# Altium footprint library 充放电.PcbLib: 23 footprints (part 1 of 2)
Each footprint in its own frame and in the unit in brackets; x right, y up, seen from the top. Pads: shape width x height; smd on the part's side, far side on the other; paste and mask are expansions set on the pad; w line width, h text height; cw(c..) or ccw(c..) is an arc to the next point about the centre after c.
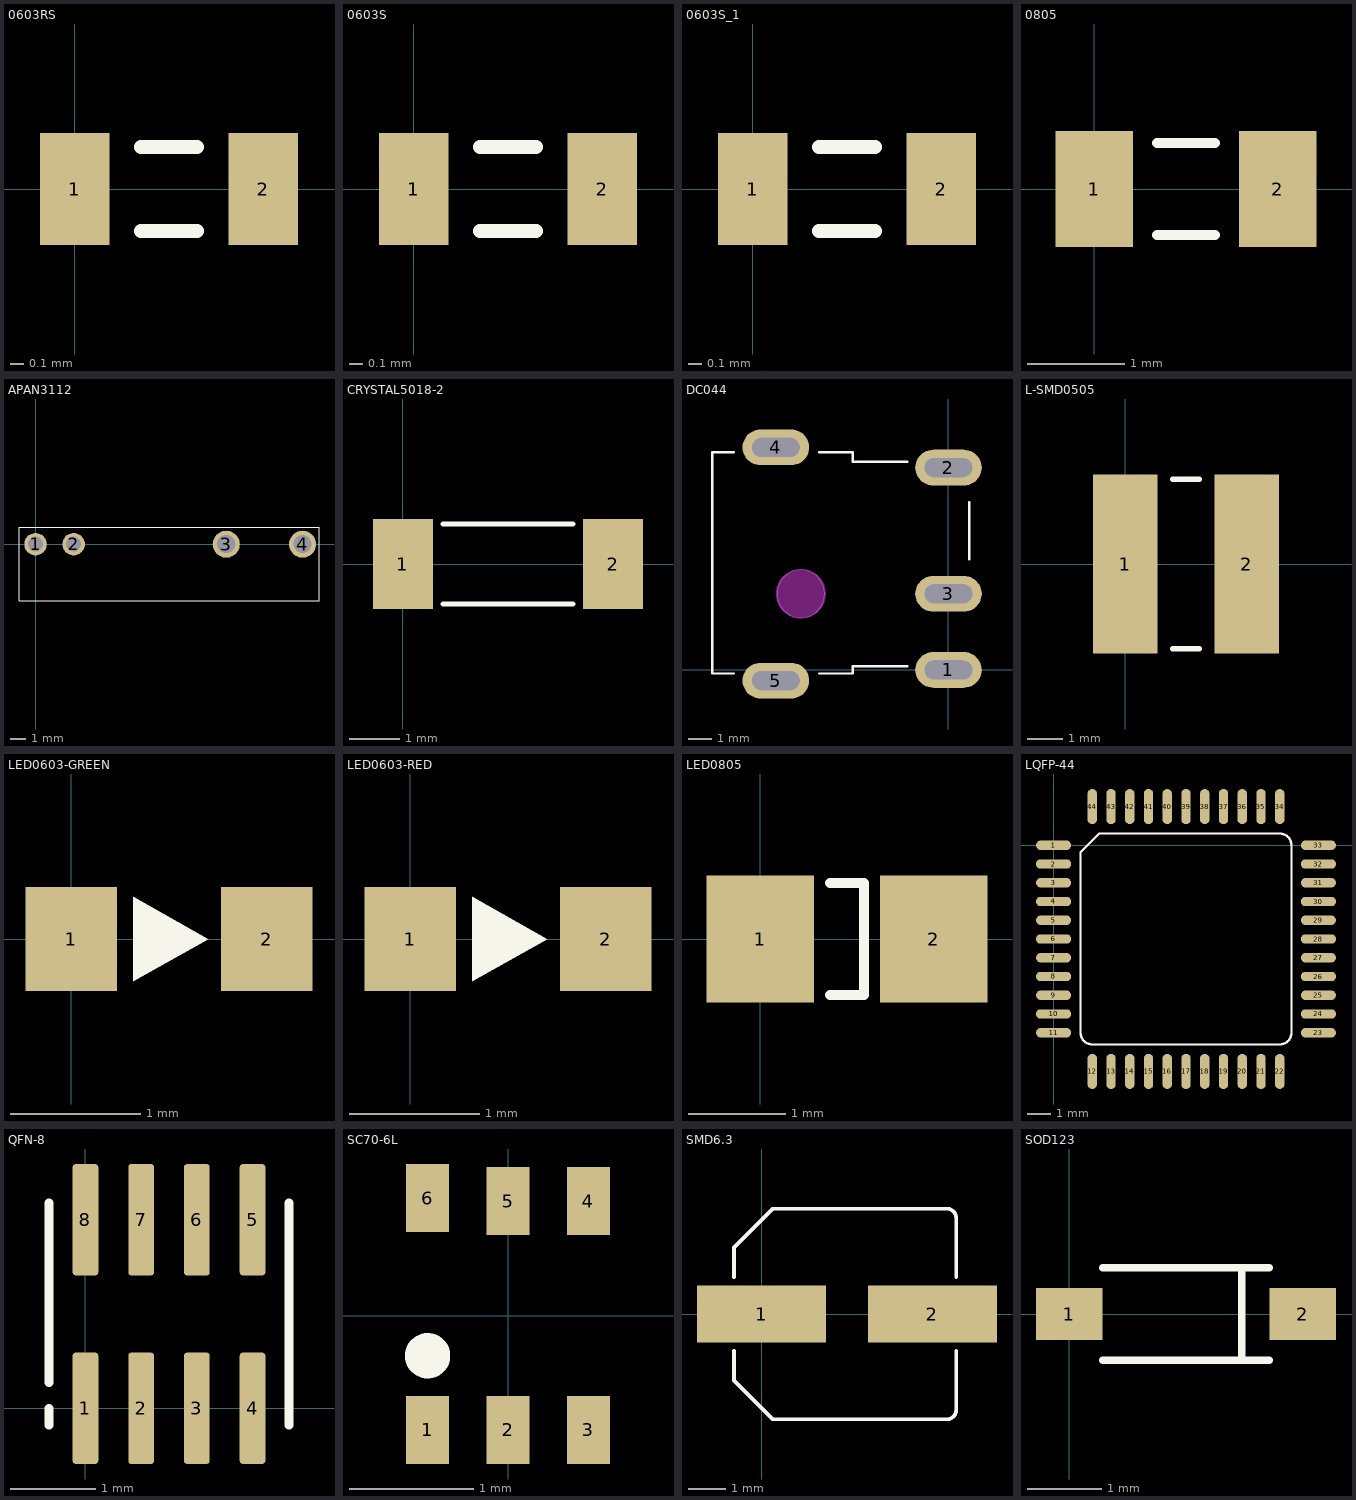
[diagram p0: the footprints below, top view; thin cyan lines are the x and y axes]

## 0603RS [mm]
pads (2):
  rect 0.5x0.8 smd: 1(0,0) 2(1.35,0)
Top Overlay:
  lines w0.1: 0.475,-0.3 0.875,-0.3 ; 0.475,0.3 0.875,0.3
3D body: height 0.41, standoff 0.4, extent 0.075,-0.4 1.275,0.4
3D body: height 0.4, standoff 0, extent 1.275,-0.4 1.475,0.4
3D body: height 0.4, standoff 0, extent 0.075,-0.4 1.275,0.4
3D body: height 0.4, standoff 0, extent -0.125,-0.4 0.075,0.4

## 0603S [mm]
pads (2):
  rect 0.5x0.8 smd: 1(0,0) 2(1.35,0)
Top Overlay:
  lines w0.1: 0.475,-0.3 0.875,-0.3 ; 0.475,0.3 0.875,0.3
3D body: height 0.8, standoff 0, extent 1.275,-0.4 1.475,0.4
3D body: height 0.8, standoff 0, extent 0.075,-0.4 1.275,0.4
3D body: height 0.8, standoff 0, extent -0.125,-0.4 0.075,0.4

## 0603S_1 [mm]
pads (2):
  rect 0.5x0.8 smd: 1(0,0) 2(1.35,0)
Top Overlay:
  lines w0.1: 0.475,-0.3 0.875,-0.3 ; 0.475,0.3 0.875,0.3
3D body: height 0.8, standoff 0, extent 1.275,-0.4 1.475,0.4
3D body: height 0.8, standoff 0, extent 0.075,-0.4 1.275,0.4
3D body: height 0.8, standoff 0, extent -0.125,-0.4 0.075,0.4

## 0805 [mm]
pads (2):
  rect 0.8x1.2 smd: 1(0,0) 2(1.9,0)
Top Overlay:
  lines w0.1: 0.65,-0.475 1.25,-0.475 ; 0.65,0.475 1.25,0.475
3D body: height 1, standoff 0, extent 1.55,-0.6 1.95,0.6
3D body: height 1, standoff 0, extent 0.35,-0.6 1.55,0.6
3D body: height 1, standoff 0, extent -0.05,-0.6 0.35,0.6

## APAN3112 [mm]
pads (4):
  round 1.5 hole 1: 1(0,0) 2(2.54,0)
  round 1.8 hole 1.2: 3(12.7,0) 4(17.78,0)
Top Overlay:
  lines w0.05: -1.1,-3.767 -1.1,-2.667 -1.1,1.133 18.875,1.133 18.875,-3.767 -1.1,-3.767
3D body: height 12.6, standoff 11.9, extent -0.697,-3.566 -0.1,-2.967
3D body: height 4, standoff -3.5, extent -0.494,-1.041 0.24,-0.991
3D body: height 4, standoff -3.5, extent 2.046,-1.041 2.78,-0.991
3D body: height 4, standoff -3.5, extent 12.192,-1.168 13.092,-1.118
3D body: height 4, standoff -3.5, extent 17.203,-1.295 18.103,-1.245
3D body: height 12, standoff 0.1, extent -1.1,-3.767 18.875,1.133
3D body: height 12.8, standoff 11.9, extent -1.1,-3.767 18.875,1.133

## CRYSTAL5018-2 [mm]
pads (2):
  rect 1.2x1.8 smd: 1(0,0) 2(4.2,0)
Top Overlay:
  lines w0.1: 0.8,-0.8 3.4,-0.8 ; 0.8,0.8 3.4,0.8
3D body: height 0.1, standoff 0, extent -0.4,-0.9 4.6,0.9
3D body: height 0.2, standoff 0.1, extent 2.804,-0.5 4.404,0.5
3D body: height 0.2, standoff 0.1, extent -0.2,-0.5 1.4,0.5
3D body: height 0.9, standoff 0, extent -0.4,-0.9 4.6,0.9
3D body: height 1, standoff 0.91, extent -0.4,-0.9 4.6,0.9
3D body: height 0.5, standoff 0.3, extent 0,-0.4 4.2,0.4

## DC044 [mm]
pads (5):
  oval 2.8x1.5 / inner oval 2.8x1.5 / far side oval 2.8x2 hole 0.8 slot 2 at 0 deg: 1(0,0) 2(0,8.5) 3(0,3.2)
  oval 2.8x1.5 hole 0.8 slot 2 at 0 deg: 4(-7.25,9.35) 5(-7.25,-0.45)
Top Overlay:
  lines w0.1: -9.025,-0.15 -9.925,-0.15 -9.925,9.15 -9.025,9.15 ; -5.425,-0.15 -4.025,-0.15 -4.025,0.15 -1.725,0.15 ; -5.425,9.15 -4.025,9.15 -4.025,8.75 -1.725,8.75 ; 0.875,4.65 0.875,7.05
Keep-Out Layer:
  circle w0.1: c-6.2,3.2 r1
  board cut-out: -7.2,3.2 -7.2,3.298 -7.162,3.492 -7.086,3.674 -6.977,3.837 -6.837,3.977 -6.674,4.086 -6.492,4.162 -6.298,4.2 -6.2,4.2 -6.102,4.2 -5.908,4.162 -5.726,4.086 -5.563,3.977 -5.423,3.837 -5.314,3.674 -5.238,3.492 -5.2,3.298 -5.2,3.2 -5.2,3.102 -5.238,2.908 -5.314,2.726 -5.423,2.563 -5.563,2.423 -5.726,2.314 -5.908,2.238 -6.102,2.2 -6.2,2.2 -6.298,2.2 -6.492,2.238 -6.674,2.314 -6.837,2.423 -6.977,2.563 -7.086,2.726 -7.162,2.908 -7.2,3.102
Mechanical 1:
  lines w0.1: -0.9,3.2 0,3.2 ; -0.4,3.2 0.5,3.2
Mechanical 2:
  circle w0.05: c-6.2,3.2 r1
3D body: height 6.6, standoff 0, extent -3.8,-0.2 1.3,9.1
3D body: height 7.2, standoff 0, extent -10.3,-0.5 -3.8,9.5
3D body: height 0, standoff -2, extent -8.15,-0.5 -6.35,-0.3
3D body: height 0, standoff -2, extent -8.15,9.3 -6.35,9.5
3D body: height 0, standoff -2, extent -0.7,-0.1 0.7,0.1
3D body: height 0, standoff -2, extent -0.7,3.1 0.7,3.3
3D body: height 0, standoff -2, extent -0.7,8.4 0.7,8.6
3D body: height 6.4, standoff 0.6, extent -10.4,0.3 -1.4,6.1
3D body: height 4.2, standoff 2.8, extent -10.4,2.505 -1.4,3.9
3D body: height 0, standoff -2, extent -6.9,2.5 -5.5,3.9

## L-SMD0505 [mm]
pads (2):
  rect 1.8x5 smd: 1(0,0) 2(3.4,0)
Top Overlay:
  lines w0.15: 1.325,-2.375 2.075,-2.375 ; 1.325,2.375 2.075,2.375
3D body: height 1.5, standoff 0.1, extent -0.9,-2.6 4.3,2.6
3D body: height 2.2, standoff 0, extent 0.063,-1.647 3.35,1.647
3D body: height 2, standoff 0.09, extent -0.086,-1.796 3.5,1.797
3D body: height 1.99, standoff 1.5, extent 0.3,-1.4 4.3,2.6
3D body: height 1.99, standoff 1.5, extent -0.9,-2.6 3.1,1.4
3D body: height 1.8, standoff 1.5, extent 2.6,-2.4 4.1,-0.9
3D body: height 1.8, standoff 0, extent 2.925,-2.425 4.125,-1.225
3D body: height 1, standoff 0, extent 2.625,-2.425 4.125,-0.925
3D body: height 1, standoff 0, extent -0.725,0.925 0.775,2.425
3D body: height 1.8, standoff 0, extent -0.725,1.225 0.475,2.425
3D body: height 1.8, standoff 1.5, extent -0.7,0.9 0.8,2.4

## LED0603-GREEN [mm]
pads (2):
  rect 0.7x0.8 smd: 1(0,0) 2(1.5,0)
Top Overlay:
  region: 0.475,0.325 0.475,-0.325 1.05,0
3D body: height 0.65, standoff 0.21, extent 0.225,-0.4 1.225,0.4
3D body: height 0.3, standoff 0.2, extent 0.65,-0.1 0.85,0.1
3D body: height 0.35, standoff 0.3, extent 0.72,-0.03 0.78,0.03
3D body: height 0.35, standoff 0.2, extent 0.895,0.245 0.955,0.305
3D body: height 0.38, standoff 0.32, extent 0.7,-0.042 0.962,0.307
3D body: height 0.2, standoff 0, extent -0.05,-0.4 0.75,0.4
3D body: height 0.2, standoff 0, extent 0.75,-0.4 1.55,0.4
3D body: height 0.21, standoff 0.2, extent -0.05,-0.375 0.95,0.377
3D body: height 0.21, standoff 0.2, extent 0.525,-0.375 1.55,0.375

## LED0603-RED [mm]
pads (2):
  rect 0.7x0.8 smd: 1(0,0) 2(1.5,0)
Top Overlay:
  region: 0.475,0.325 0.475,-0.325 1.05,0
3D body: height 0.65, standoff 0.21, extent 0.225,-0.4 1.225,0.4
3D body: height 0.3, standoff 0.2, extent 0.65,-0.1 0.85,0.1
3D body: height 0.35, standoff 0.3, extent 0.72,-0.03 0.78,0.03
3D body: height 0.35, standoff 0.2, extent 0.895,0.245 0.955,0.305
3D body: height 0.38, standoff 0.32, extent 0.7,-0.042 0.962,0.307
3D body: height 0.2, standoff 0, extent -0.05,-0.4 0.75,0.4
3D body: height 0.2, standoff 0, extent 0.75,-0.4 1.55,0.4
3D body: height 0.21, standoff 0.2, extent -0.05,-0.375 0.95,0.377
3D body: height 0.21, standoff 0.2, extent 0.525,-0.375 1.55,0.375

## LED0805 [mm]
pads (2):
  rect 1.1x1.3 smd: 1(0,0) 2(1.778,0)
Top Overlay:
  lines w0.1: 0.714,-0.575 1.064,-0.575 1.064,0.575 0.714,0.575
3D body: height 0.65, standoff 0.6, extent 0.525,-0.025 0.914,0.364
3D body: height 0.65, standoff 0.55, extent 0.864,-0.025 0.914,0.025
3D body: height 0.55, standoff 0.5, extent 0.79,-0.1 0.989,0.1
3D body: height 1, standoff 0.3, extent 0.189,-0.7 1.589,0.7
3D body: height 0.5, standoff 0.3, extent 0.689,-0.2 1.089,0.2
3D body: height 0.65, standoff 0.3, extent 0.526,0.314 0.575,0.364
3D body: height 0.31, standoff 0.3, extent 1.589,-0.7 1.764,0.7
3D body: height 0.31, standoff 0.3, extent -0.236,-0.7 0.592,0.7
3D body: height 0.31, standoff 0.3, extent 0.667,-0.7 2.014,0.7
3D body: height 0.3, standoff 0, extent -0.236,-0.7 2.014,0.7

## LQFP-44 [mm]
pads (44):
  oval 1.5x0.4 smd: 1(0,0) 2(0,-0.8) 3(0,-1.6) 4(0,-2.4) 5(0,-3.2) 6(0,-4) 7(0,-4.8) 8(0,-5.6) 9(0,-6.4) 10(0,-7.2) 11(0,-8) 23(11.303,-8.001) 24(11.303,-7.201) 25(11.303,-6.401) 26(11.303,-5.601) 27(11.303,-4.801) 28(11.303,-4.001) 29(11.303,-3.201) 30(11.303,-2.401) 31(11.303,-1.601) 32(11.303,-0.801) 33(11.303,-0.001)
  oval 0.4x1.5 smd: 12(1.652,-9.652) 13(2.452,-9.652) 14(3.252,-9.652) 15(4.052,-9.652) 16(4.852,-9.652) 17(5.652,-9.652) 18(6.452,-9.652) 19(7.252,-9.652) 20(8.052,-9.652) 21(8.852,-9.652) 22(9.652,-9.652) 34(9.652,1.651) 35(8.852,1.651) 36(8.052,1.651) 37(7.252,1.651) 38(6.452,1.651) 39(5.652,1.651) 40(4.852,1.651) 41(4.052,1.651) 42(3.252,1.651) 43(2.452,1.651) 44(1.652,1.651)
Top Overlay:
  lines w0.1: 1.652,-8.501 9.651,-8.501 ccw(c9.651,-8.001) 10.152,-8.001 ; 1.652,-8.501 cw(c1.652,-8) 1.151,-8 1.151,-0.3 1.951,0.5 9.652,0.5 cw(c9.652,-0.001) 10.152,-0.001 10.152,-8
3D body: height 1.4, standoff 1.2, extent 0.495,-0.188 0.749,0.19
3D body: height 1.4, standoff 0, extent 0.292,-0.188 0.495,0.19
3D body: height 0.3, standoff 0, extent -0.394,-0.188 0.292,0.19
3D body: height 1.4, standoff 1.2, extent 0.495,-0.988 0.749,-0.61
3D body: height 1.4, standoff 0, extent 0.292,-0.988 0.495,-0.61
3D body: height 0.3, standoff 0, extent -0.394,-0.988 0.292,-0.61
3D body: height 1.4, standoff 1.2, extent 0.495,-1.788 0.749,-1.41
3D body: height 1.4, standoff 0, extent 0.292,-1.788 0.495,-1.41
3D body: height 0.3, standoff 0, extent -0.394,-1.788 0.292,-1.41
3D body: height 1.4, standoff 1.2, extent 0.495,-2.588 0.749,-2.21
3D body: height 1.4, standoff 0, extent 0.292,-2.588 0.495,-2.21
3D body: height 0.3, standoff 0, extent -0.394,-2.588 0.292,-2.21
3D body: height 1.4, standoff 1.2, extent 0.495,-3.388 0.749,-3.01
3D body: height 1.4, standoff 0, extent 0.292,-3.388 0.495,-3.01
3D body: height 0.3, standoff 0, extent -0.394,-3.388 0.292,-3.01
3D body: height 1.4, standoff 1.2, extent 0.495,-4.188 0.749,-3.81
3D body: height 1.4, standoff 0, extent 0.292,-4.188 0.495,-3.81
3D body: height 0.3, standoff 0, extent -0.394,-4.188 0.292,-3.81
3D body: height 1.4, standoff 1.2, extent 0.495,-4.988 0.749,-4.61
3D body: height 1.4, standoff 0, extent 0.292,-4.988 0.495,-4.61
3D body: height 0.3, standoff 0, extent -0.394,-4.988 0.292,-4.61
3D body: height 1.4, standoff 1.2, extent 0.495,-5.788 0.749,-5.41
3D body: height 1.4, standoff 0, extent 0.292,-5.788 0.495,-5.41
3D body: height 0.3, standoff 0, extent -0.394,-5.788 0.292,-5.41
3D body: height 1.4, standoff 1.2, extent 0.495,-6.588 0.749,-6.21
3D body: height 1.4, standoff 0, extent 0.292,-6.588 0.495,-6.21
3D body: height 0.3, standoff 0, extent -0.394,-6.588 0.292,-6.21
3D body: height 1.4, standoff 1.2, extent 0.495,-7.388 0.749,-7.01
3D body: height 1.4, standoff 0, extent 0.292,-7.388 0.495,-7.01
3D body: height 0.3, standoff 0, extent -0.394,-7.388 0.292,-7.01
3D body: height 1.4, standoff 1.2, extent 0.495,-8.188 0.749,-7.81
3D body: height 1.4, standoff 0, extent 0.292,-8.188 0.495,-7.81
3D body: height 0.3, standoff 0, extent -0.394,-8.188 0.292,-7.81
3D body: height 1.4, standoff 1.2, extent 1.462,-9.157 1.84,-8.903
3D body: height 1.4, standoff 0, extent 1.462,-9.36 1.84,-9.157
3D body: height 0.3, standoff 0, extent 1.462,-10.046 1.84,-9.36
3D body: height 1.4, standoff 1.2, extent 2.262,-9.157 2.64,-8.903
3D body: height 1.4, standoff 0, extent 2.262,-9.36 2.64,-9.157
3D body: height 0.3, standoff 0, extent 2.262,-10.046 2.64,-9.36
3D body: height 1.4, standoff 1.2, extent 3.062,-9.157 3.44,-8.903
3D body: height 1.4, standoff 0, extent 3.062,-9.36 3.44,-9.157
3D body: height 0.3, standoff 0, extent 3.062,-10.046 3.44,-9.36
3D body: height 1.4, standoff 1.2, extent 3.862,-9.157 4.24,-8.903
3D body: height 1.4, standoff 0, extent 3.862,-9.36 4.24,-9.157
3D body: height 0.3, standoff 0, extent 3.862,-10.046 4.24,-9.36
3D body: height 1.4, standoff 1.2, extent 4.662,-9.157 5.04,-8.903
3D body: height 1.4, standoff 0, extent 4.662,-9.36 5.04,-9.157
3D body: height 0.3, standoff 0, extent 4.662,-10.046 5.04,-9.36
3D body: height 1.4, standoff 1.2, extent 5.462,-9.157 5.84,-8.903
3D body: height 1.4, standoff 0, extent 5.462,-9.36 5.84,-9.157
3D body: height 0.3, standoff 0, extent 5.462,-10.046 5.84,-9.36
3D body: height 1.4, standoff 1.2, extent 6.262,-9.157 6.64,-8.903
3D body: height 1.4, standoff 0, extent 6.262,-9.36 6.64,-9.157
3D body: height 0.3, standoff 0, extent 6.262,-10.046 6.64,-9.36
3D body: height 1.4, standoff 1.2, extent 7.062,-9.157 7.44,-8.903
3D body: height 1.4, standoff 0, extent 7.062,-9.36 7.44,-9.157
3D body: height 0.3, standoff 0, extent 7.062,-10.046 7.44,-9.36
3D body: height 1.4, standoff 1.2, extent 7.862,-9.157 8.24,-8.903
3D body: height 1.4, standoff 0, extent 7.862,-9.36 8.24,-9.157
3D body: height 0.3, standoff 0, extent 7.862,-10.046 8.24,-9.36
3D body: height 1.4, standoff 1.2, extent 8.662,-9.157 9.04,-8.903
3D body: height 1.4, standoff 0, extent 8.662,-9.36 9.04,-9.157
3D body: height 0.3, standoff 0, extent 8.662,-10.046 9.04,-9.36
3D body: height 1.4, standoff 1.2, extent 9.462,-9.157 9.84,-8.903
3D body: height 1.4, standoff 0, extent 9.462,-9.36 9.84,-9.157
3D body: height 0.3, standoff 0, extent 9.462,-10.046 9.84,-9.36
3D body: height 1.4, standoff 1.2, extent 10.554,-8.191 10.808,-7.813
3D body: height 1.4, standoff 0, extent 10.808,-8.191 11.011,-7.813
3D body: height 0.3, standoff 0, extent 11.011,-8.191 11.697,-7.813
3D body: height 1.4, standoff 1.2, extent 10.554,-7.391 10.808,-7.013
3D body: height 1.4, standoff 0, extent 10.808,-7.391 11.011,-7.013
3D body: height 0.3, standoff 0, extent 11.011,-7.391 11.697,-7.013
3D body: height 1.4, standoff 1.2, extent 10.554,-6.591 10.808,-6.213
3D body: height 1.4, standoff 0, extent 10.808,-6.591 11.011,-6.213
3D body: height 0.3, standoff 0, extent 11.011,-6.591 11.697,-6.213
3D body: height 1.4, standoff 1.2, extent 10.554,-5.791 10.808,-5.413
3D body: height 1.4, standoff 0, extent 10.808,-5.791 11.011,-5.413
3D body: height 0.3, standoff 0, extent 11.011,-5.791 11.697,-5.413
3D body: height 1.4, standoff 1.2, extent 10.554,-4.991 10.808,-4.613
3D body: height 1.4, standoff 0, extent 10.808,-4.991 11.011,-4.613
3D body: height 0.3, standoff 0, extent 11.011,-4.991 11.697,-4.613
3D body: height 1.4, standoff 1.2, extent 10.554,-4.191 10.808,-3.813
3D body: height 1.4, standoff 0, extent 10.808,-4.191 11.011,-3.813
3D body: height 0.3, standoff 0, extent 11.011,-4.191 11.697,-3.813
3D body: height 1.4, standoff 1.2, extent 10.554,-3.391 10.808,-3.013
3D body: height 1.4, standoff 0, extent 10.808,-3.391 11.011,-3.013
3D body: height 0.3, standoff 0, extent 11.011,-3.391 11.697,-3.013
3D body: height 1.4, standoff 1.2, extent 10.554,-2.591 10.808,-2.213
3D body: height 1.4, standoff 0, extent 10.808,-2.591 11.011,-2.213
3D body: height 0.3, standoff 0, extent 11.011,-2.591 11.697,-2.213
3D body: height 1.4, standoff 1.2, extent 10.554,-1.791 10.808,-1.413
3D body: height 1.4, standoff 0, extent 10.808,-1.791 11.011,-1.413
3D body: height 0.3, standoff 0, extent 11.011,-1.791 11.697,-1.413
3D body: height 1.4, standoff 1.2, extent 10.554,-0.991 10.808,-0.613
3D body: height 1.4, standoff 0, extent 10.808,-0.991 11.011,-0.613
3D body: height 0.3, standoff 0, extent 11.011,-0.991 11.697,-0.613
3D body: height 1.4, standoff 1.2, extent 10.554,-0.191 10.808,0.187
3D body: height 1.4, standoff 0, extent 10.808,-0.191 11.011,0.187
3D body: height 0.3, standoff 0, extent 11.011,-0.191 11.697,0.187
3D body: height 1.4, standoff 1.2, extent 9.464,0.902 9.842,1.156
3D body: height 1.4, standoff 0, extent 9.464,1.156 9.842,1.359
3D body: height 0.3, standoff 0, extent 9.464,1.359 9.842,2.045
3D body: height 1.4, standoff 1.2, extent 8.664,0.902 9.042,1.156
3D body: height 1.4, standoff 0, extent 8.664,1.156 9.042,1.359
3D body: height 0.3, standoff 0, extent 8.664,1.359 9.042,2.045
3D body: height 1.4, standoff 1.2, extent 7.876,0.914 8.254,1.168
3D body: height 1.4, standoff 0, extent 7.876,1.168 8.254,1.372
3D body: height 0.3, standoff 0, extent 7.876,1.372 8.254,2.057
3D body: height 1.4, standoff 1.2, extent 7.064,0.902 7.442,1.156
3D body: height 1.4, standoff 0, extent 7.064,1.156 7.442,1.359
3D body: height 0.3, standoff 0, extent 7.064,1.359 7.442,2.045
3D body: height 1.4, standoff 1.2, extent 6.264,0.902 6.642,1.156
3D body: height 1.4, standoff 0, extent 6.264,1.156 6.642,1.359
3D body: height 0.3, standoff 0, extent 6.264,1.359 6.642,2.045
3D body: height 1.4, standoff 1.2, extent 5.464,0.902 5.842,1.156
3D body: height 1.4, standoff 0, extent 5.464,1.156 5.842,1.359
3D body: height 0.3, standoff 0, extent 5.464,1.359 5.842,2.045
3D body: height 1.4, standoff 1.2, extent 4.664,0.902 5.042,1.156
3D body: height 1.4, standoff 0, extent 4.664,1.156 5.042,1.359
3D body: height 0.3, standoff 0, extent 4.664,1.359 5.042,2.045
3D body: height 1.4, standoff 1.2, extent 3.864,0.902 4.242,1.156
3D body: height 1.4, standoff 0, extent 3.864,1.156 4.242,1.359
3D body: height 0.3, standoff 0, extent 3.864,1.359 4.242,2.045
3D body: height 1.4, standoff 1.2, extent 3.064,0.902 3.442,1.156
3D body: height 1.4, standoff 0, extent 3.064,1.156 3.442,1.359
3D body: height 0.3, standoff 0, extent 3.064,1.359 3.442,2.045
3D body: height 1.4, standoff 1.2, extent 2.264,0.902 2.642,1.156
3D body: height 1.4, standoff 0, extent 2.264,1.156 2.642,1.359
3D body: height 0.3, standoff 0, extent 2.264,1.359 2.642,2.045
3D body: height 0.3, standoff 0, extent 1.464,1.359 1.841,2.045
3D body: height 1.4, standoff 0, extent 1.464,1.156 1.841,1.359
3D body: height 1.4, standoff 1.2, extent 1.464,0.902 1.841,1.156
3D body: height 2, standoff 0.5, extent 0.749,-8.903 10.554,0.9
3D body: height 2.11, standoff 0.1, extent 1.5,-0.9 2.695,0.298

## QFN-8 [mm]
pads (8):
  rrect25% 0.3x1.3 smd mask+0.05: 1(0,0) 2(0.65,0) 3(1.3,0) 4(1.95,0) 5(1.95,2.2) 6(1.3,2.2) 7(0.65,2.2) 8(0,2.2)
Top Overlay:
  lines w0.1: -0.425,-0.2 -0.425,0 ; -0.425,0.3 -0.425,2.4 ; 2.375,-0.2 2.375,2.4
3D body: height 0.2, standoff 0, extent 1.825,-0.425 2.075,0.05
3D body: height 0.2, standoff 0, extent 1.175,-0.425 1.425,0.05
3D body: height 0.2, standoff 0, extent 0.525,-0.425 0.775,0.05
3D body: height 0.2, standoff 0, extent -0.125,-0.425 0.125,0.05
3D body: height 0.2, standoff 0, extent 1.825,2.15 2.075,2.625
3D body: height 0.2, standoff 0, extent 1.175,2.15 1.425,2.625
3D body: height 0.2, standoff 0, extent 0.525,2.15 0.775,2.625
3D body: height 0.91, standoff 0.9, extent -0.225,0 0.175,0.4
3D body: height 0.9, standoff 0.02, extent -0.525,-0.4 2.475,2.6
3D body: height 0.2, standoff 0, extent -0.125,2.15 0.125,2.625

## SC70-6L [mm]
pads (6):
  rect 0.35x0.55 smd: 1(-0.65,-0.925) 2(0,-0.925) 3(0.65,-0.925) 4(0.65,0.925) 5(0,0.925) 6(-0.65,0.95)
Top Overlay:
  circle w0.254: c-0.65,-0.325 r0.056
3D body: height 0.15, standoff 0, extent -0.15,-1.2 0.15,-0.8
3D body: height 0.7, standoff 0, extent -0.15,-0.95 0.15,-0.8
3D body: height 0.7, standoff 0.55, extent -0.15,-0.8 0.15,-0.625
3D body: height 0.7, standoff 0.55, extent -0.8,-0.8 -0.5,-0.625
3D body: height 0.7, standoff 0, extent -0.8,-0.95 -0.5,-0.8
3D body: height 0.15, standoff 0, extent -0.8,-1.2 -0.5,-0.8
3D body: height 0.7, standoff 0.55, extent 0.5,-0.8 0.8,-0.625
3D body: height 0.7, standoff 0, extent 0.5,-0.95 0.8,-0.8
3D body: height 0.15, standoff 0, extent 0.5,-1.2 0.8,-0.8
3D body: height 0.15, standoff 0, extent -0.8,0.8 -0.5,1.2
3D body: height 0.7, standoff 0, extent -0.8,0.8 -0.5,0.95
3D body: height 0.7, standoff 0.55, extent -0.8,0.625 -0.5,0.8
3D body: height 0.15, standoff 0, extent 0.5,0.8 0.8,1.2
3D body: height 0.7, standoff 0, extent 0.5,0.8 0.8,0.95
3D body: height 0.7, standoff 0.55, extent 0.5,0.625 0.8,0.8
3D body: height 0.7, standoff 0.55, extent -0.15,0.625 0.15,0.8
3D body: height 0.7, standoff 0, extent -0.15,0.8 0.15,0.95
3D body: height 0.15, standoff 0, extent -0.15,0.8 0.15,1.2
3D body: height 1.11, standoff 1.1, extent -0.799,-0.475 -0.5,-0.175
3D body: height 1.1, standoff 0.1, extent -1,-0.625 1,0.625

## SMD6.3 [mil]
pads (2):
  rect 136x60 smd: 1(0,0) 2(180,0)
Top Overlay:
  lines w3.94: -29,-39 -29,-70 12,-111 195,-111 ccw(c195,-101) 205,-101 205,-39 ; -29,39 -29,70 12,111 195,111 cw(c195,101) 205,101 205,39
3D body: height 11.81, standoff 0, extent 227,-30 238,30
3D body: height 11.81, standoff 0, extent -59,-30 -48,30
3D body: height 39.37, standoff 0, extent -48,-131 227,130
3D body: height 299.21, standoff 0, extent -32.53,-125 214.53,122.54

## SOD123 [mm]
pads (2):
  rect 0.9x0.7 smd: 1(0,0) 2(3.15,0)
Top Overlay:
  lines w0.1: 0.45,-0.625 2.7,-0.625 ; 0.45,0.625 2.7,0.625 ; 2.325,-0.625 2.325,0.625
3D body: height 0.3, standoff 0, extent 2.775,-0.25 3.475,0.25
3D body: height 1.31, standoff 1.3, extent 2.6,-0.8 2.8,0.8
3D body: height 0.3, standoff 0, extent -0.325,-0.25 0.375,0.25
3D body: height 1.3, standoff 0.2, extent 0.175,-0.8 2.975,0.8